# Altium footprint library Tactile buttons.PcbLib: 13 footprints
Each footprint in its own frame and in the unit in brackets; x right, y up, seen from the top. Pads: shape width x height; smd on the part's side, far side on the other; paste and mask are expansions set on the pad; w line width, h text height; cw(c..) or ccw(c..) is an arc to the next point about the centre after c.
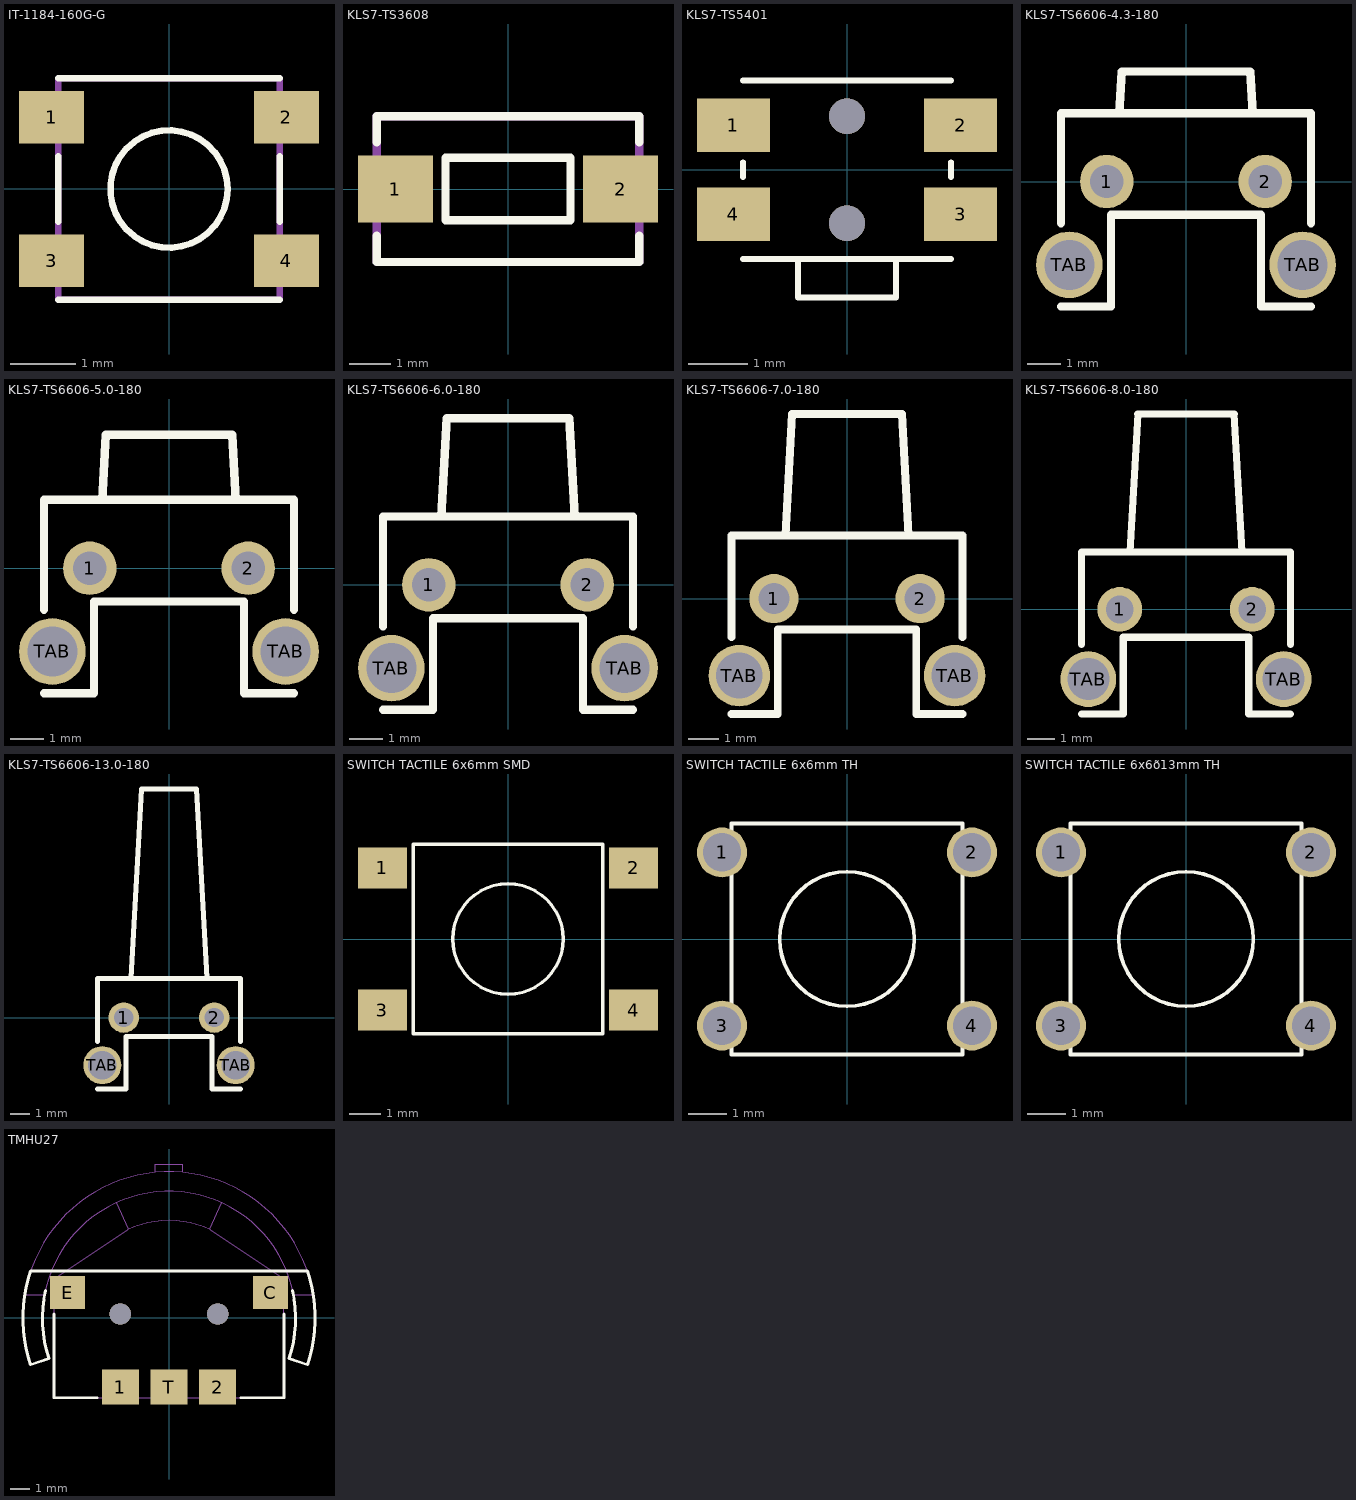
[diagram p0: the footprints below, top view; thin cyan lines are the x and y axes]

## IT-1184-160G-G [mm] "SWITCH TACTILE SMD 3.4x3.4x1.5SPST-NO 0.05A 12V"
height 1.5
pads (4):
  rect 1x0.8 smd: 1(-1.8,1.1) 2(1.8,1.1) 3(-1.8,-1.1) 4(1.8,-1.1)
Top Overlay:
  circle w0.1: c0,0 r0.9
  lines w0.1: -1.7,-1.7 1.7,-1.7 ; -1.7,-0.5 -1.7,0.5 ; -1.7,1.7 1.7,1.7 ; 1.7,-0.5 1.7,0.5
Mechanical 13:
  lines w0.1: -1.7,-1.7 -1.7,1.7 1.7,1.7 1.7,-1.7 -1.7,-1.7

## KLS7-TS3608 [mm] "3x6 Tact Switch Series KLS Electronics"
height 5
pads (2):
  rect 1.8x1.6 smd: 1(-2.7,0) 2(2.7,0)
Top Overlay:
  lines w0.2: -3.15,-1.125 -3.15,-1.75 3.15,-1.75 3.15,-1.125 ; -3.15,1.125 -3.15,1.75 3.15,1.75 3.15,1.125 ; -1.5,-0.75 -1.5,0.75 1.5,0.75 1.5,-0.75 -1.5,-0.75
Mechanical 13:
  lines w0.2: -3.15,-1.75 3.15,-1.75 3.15,1.75 -3.15,1.75 -3.15,-1.75
3D body "KFC-2Pin SMD.STEP": height 4.2, standoff 0, extent -4,-1.75 4,1.75

## KLS7-TS5401 [mm] "4x5 Tact Switch Right Angle KLS Electronics"
height 1.4
pads (4):
  rect 1.225x0.9 smd: 1(-1.913,0.75) 2(1.913,0.75) 3(1.913,-0.75) 4(-1.913,-0.75)
via 0,0.9 diameter 0.6 hole 0.6
via 0,-0.9 diameter 0.6 hole 0.6
Top Overlay:
  lines w0.1: -1.75,-1.5 1.75,-1.5 ; -1.75,-0.125 -1.75,0.125 ; -1.75,1.5 1.75,1.5 ; -0.825,-1.5 -0.825,-2.15 0.825,-2.15 0.825,-1.5 ; 1.75,-0.125 1.75,0.125
3D body: height 1, standoff 0.3, extent -0.825,-2.15 0.825,-0.5
3D body: height 1.4, standoff 0, extent -1.75,-1.5 1.75,1.5

## KLS7-TS6606-4.3-180 [mm] "KLS7-TS6606-4.3-180"
height 7.1
pads (4):
  round 1.6 hole 1: 1(-2.375,0) 2(2.375,0)
  round 2 hole 1.5: TAB(-3.5,-2.5) TAB(3.5,-2.5)
Top Overlay:
  lines w0.254: -3.75,-3.75 -2.25,-3.75 -2.25,-1 2.25,-1 2.25,-3.75 3.75,-3.75 ; -3.75,-1.25 -3.75,2.05 3.75,2.05 3.75,-1.25 ; -2,2.05 -1.931,3.3 1.931,3.3 2,2.05

## KLS7-TS6606-5.0-180 [mm] "KLS7-TS6606-5.0-180"
height 7.1
pads (4):
  round 1.6 hole 1: 1(-2.375,0) 2(2.375,0)
  round 2 hole 1.5: TAB(-3.5,-2.5) TAB(3.5,-2.5)
Top Overlay:
  lines w0.254: -3.75,-3.75 -2.25,-3.75 -2.25,-1 2.25,-1 2.25,-3.75 3.75,-3.75 ; -3.75,-1.25 -3.75,2.05 3.75,2.05 3.75,-1.25 ; -2,2.05 -1.893,4 1.893,4 2,2.05

## KLS7-TS6606-6.0-180 [mm] "KLS7-TS6606-6.0-180"
height 7.1
pads (4):
  round 1.6 hole 1: 1(-2.375,0) 2(2.375,0)
  round 2 hole 1.5: TAB(-3.5,-2.5) TAB(3.5,-2.5)
Top Overlay:
  lines w0.254: -3.75,-3.75 -2.25,-3.75 -2.25,-1 2.25,-1 2.25,-3.75 3.75,-3.75 ; -3.75,-1.25 -3.75,2.05 3.75,2.05 3.75,-1.25 ; -2,2.05 -1.838,5 1.838,5 2,2.05

## KLS7-TS6606-7.0-180 [mm] "KLS7-TS6606-7.0-180"
height 7.1
pads (4):
  round 1.6 hole 1: 1(-2.375,0) 2(2.375,0)
  round 2 hole 1.5: TAB(-3.5,-2.5) TAB(3.5,-2.5)
Top Overlay:
  lines w0.254: -3.75,-3.75 -2.25,-3.75 -2.25,-1 2.25,-1 2.25,-3.75 3.75,-3.75 ; -3.75,-1.25 -3.75,2.05 3.75,2.05 3.75,-1.25 ; -2,2.05 -1.783,6 1.783,6 2,2.05

## KLS7-TS6606-8.0-180 [mm] "KLS7-TS6606-8.0-180"
height 7.1
pads (4):
  round 1.6 hole 1: 1(-2.375,0) 2(2.375,0)
  round 2 hole 1.5: TAB(-3.5,-2.5) TAB(3.5,-2.5)
Top Overlay:
  lines w0.254: -3.75,-3.75 -2.25,-3.75 -2.25,-1 2.25,-1 2.25,-3.75 3.75,-3.75 ; -3.75,-1.25 -3.75,2.05 3.75,2.05 3.75,-1.25 ; -2,2.05 -1.728,7 1.728,7 2,2.05

## KLS7-TS6606-13.0-180 [mm] "KLS7-TS6606-13.0-180"
height 7.1
pads (4):
  round 1.6 hole 1: 1(-2.375,0) 2(2.375,0)
  round 2 hole 1.5: TAB(-3.5,-2.5) TAB(3.5,-2.5)
Top Overlay:
  lines w0.254: -3.75,-3.75 -2.25,-3.75 -2.25,-1 2.25,-1 2.25,-3.75 3.75,-3.75 ; -3.75,-1.25 -3.75,2.05 3.75,2.05 3.75,-1.25 ; -2,2.05 -1.452,12 1.452,12 2,2.05

## SWITCH TACTILE 6x6mm SMD [mm] "Tactile switch SMD"
height 5
pads (4):
  rect 1.55x1.3 smd: 1(-3.975,2.25) 2(3.975,2.25) 3(-3.975,-2.25) 4(3.975,-2.25)
Top Overlay:
  circle w0.1: c0,0 r1.75
  lines w0.1: -3,-3 -3,3 0,3 3,3 3,-3 -3,-3
3D body "User Library-switch.SLDPRT": height 5, standoff 0, extent -4.5,-3 4.5,3

## SWITCH TACTILE 6x6mm TH [mm] "Tactile switch TH"
height 5
pads (4):
  round 1.3 hole 1: 1(-3.25,2.25) 2(3.25,2.25) 3(-3.25,-2.25) 4(3.25,-2.25)
Top Overlay:
  circle w0.1: c0,0 r1.75
  lines w0.1: -3,-3 -3,3 0,3 3,3 3,-3 -3,-3
3D body "Tactile switch 6x6x5mm TH.STEP": height 5.11, standoff -3.41, extent -3.871,-3.015 3.871,3.015

## SWITCH TACTILE 6x6õ13mm TH [mm] "Tactile switch TH"
height 5
pads (4):
  round 1.3 hole 1: 1(-3.25,2.25) 2(3.25,2.25) 3(-3.25,-2.25) 4(3.25,-2.25)
Top Overlay:
  circle w0.1: c0,0 r1.75
  lines w0.1: -3,-3 -3,3 0,3 3,3 3,-3 -3,-3

## TMHU27 [mm] "3 way tactile switch"
height 2.5
pads (5):
  rect 1.9x1.8 smd: 1(-2.5,-3.55) 2(2.5,-3.55) T(0,-3.55)
  rect 1.8x1.7 smd: C(5.2,1.3) E(-5.2,1.3)
via 2.5,0.2 diameter 1.1 hole 1.1
via -2.5,0.2 diameter 1.1 hole 1.1
Top Overlay:
  lines w0.15: -6.345,1.41 ccw(c0,0) -6.156,-2.085 -7.105,-2.402 cw(c0,0) -7.106,2.4 -5.9,2.4 5.9,2.4 7.105,2.4 cw(c0,0) 7.105,-2.402 6.156,-2.085 ccw(c0,0) 6.345,1.41 ; -5.9,0.2 -5.9,-4.1 -3.7,-4.1 ; 3.7,-4.1 5.9,-4.1 5.9,0.2
Mechanical 13:
  lines w0.05: -2.7,5.9 -2.081,4.546 ; -0.7,7.5 -0.7,7.9 0,7.9 0.7,7.9 0.7,7.5 ; 2.081,4.546 2.7,5.9 ; -7.403,1.201 cw(c0,0) 7.403,1.201 6.389,1.198 ccw(c0,0) -6.389,1.198 -7.403,1.201 ; -5.9,-4.1 5.9,-4.1 5.9,1.2 5.9,2 2.114,4.531 ccw(c0,0) -2.114,4.531 -5.9,2 -5.9,1.2 -5.9,-4.1